# Altium footprint library BoxHeader.PcbLib: 1 footprints
Each footprint in its own frame and in the unit in brackets; x right, y up, seen from the top. Pads: shape width x height; smd on the part's side, far side on the other; paste and mask are expansions set on the pad; w line width, h text height; cw(c..) or ccw(c..) is an arc to the next point about the centre after c.
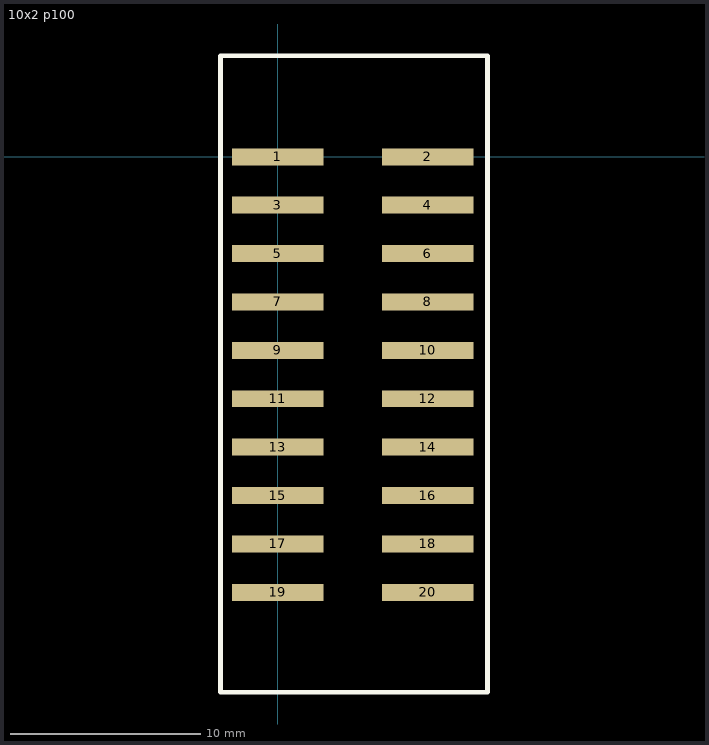
[diagram p0: the footprint, top view; thin cyan lines are the x and y axes]

## 10x2 p100 [mm] "20pin 10x2 p100"
pads (20):
  rect 4.8x0.89 smd: 1(0,0) 2(7.874,0) 3(0,-2.54) 4(7.874,-2.54) 5(0,-5.08) 6(7.874,-5.08) 7(0,-7.62) 8(7.874,-7.62) 9(0,-10.16) 10(7.874,-10.16) 11(0,-12.7) 12(7.874,-12.7) 13(0,-15.24) 14(7.874,-15.24) 15(0,-17.78) 16(7.874,-17.78) 17(0,-20.32) 18(7.874,-20.32) 19(0,-22.86) 20(7.874,-22.86)
Top Overlay:
  lines w0.254: -3,-28.1 -3,5.3 11,5.3 11,-28.1 -3,-28.1
3D body: height 10.4, standoff -0.02, extent -1.1,-27.91 8.4,5.11